# Altium schematic symbol library 16SEPC100M+C3.SchLib: 1 symbol
Pins are listed as number, name and electrical type; pins without a type are passive.

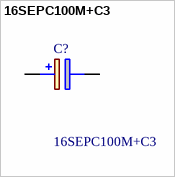
[diagram p0: symbol 16SEPC100M+C3]

## 16SEPC100M+C3
designator C?
100 F 16 V Aluminum - Polymer Capacitors Radial, Can 24mOhm 5000 Hrs @ 105C; Manufacturer_Name: Panasonic; Geometry.Height: 6mm; Manufacturer_Part_Number: 16SEPC100M+C3; Mouser Part Number: *; Mouser Price/Stock: *; Arrow Part Number: *; Arrow Price/Stock: *; Datasheet Link: http://industrial.panasonic.com/cdbs/www-data/pdf/AAB8000/AAB8000C247.pdf
footprint CAPPRD250W50D630H600
pins: 1 +, 2 -